# EAGLE library part EE-SX1131 (library BEEP)
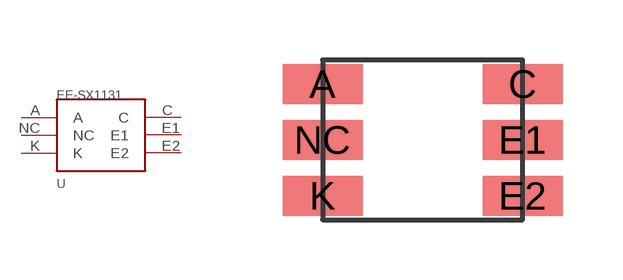
[diagram p9: symbol with the pads of EE-SX1131; footprint EE-SX1131]

Designator prefix -

## EE-SX1131  [EE-SX1131]
A  A  in
C  C
E1  E1
E2  E2
K  K
NC  NC  nc

## Footprint EE-SX1131 (pad centres in mm)
smd 2 x 1: A -2.5,1.4; C 2.5,1.4; E1 2.5,0; E2 2.5,-1.4; K -2.5,-1.4; NC -2.5,0